# Altium footprint library pcb_peb_1.PcbLib: 34 footprints (part 3 of 3)
Each footprint in its own frame and in the unit in brackets; x right, y up, seen from the top. Pads: shape width x height; smd on the part's side, far side on the other; paste and mask are expansions set on the pad; w line width, h text height; cw(c..) or ccw(c..) is an arc to the next point about the centre after c.
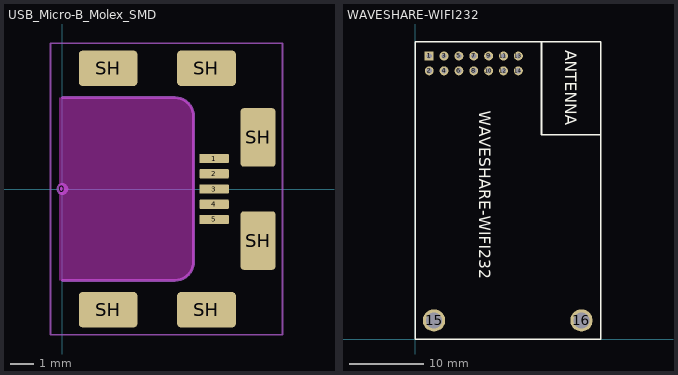
[diagram p2: the footprints below, top view; thin cyan lines are the x and y axes]

## USB_Micro-B_Molex_SMD [mm] "RS: 702-5479"
height 1.2
pads (12):
  round 0.508 on Mech15: 0(0,0)
  rrect20% 1.25x0.4 smd: 1(6.475,1.3) 2(6.475,0.65) 3(6.475,0) 4(6.475,-0.65) 5(6.475,-1.3)
  rrect20% 2.5x1.5 smd: SH(1.95,-5.15) SH(1.95,5.15) SH(6.15,-5.15) SH(6.15,5.15)
  rrect20% 1.5x2.5 smd: SH(8.35,-2.2) SH(8.35,2.2)
Top Solder:
  rectangle: 5.842,-1.27 7.112,1.27
Keep-Out Layer:
  board cut-out: -0.127,3.9 4.8,3.9 4.852,3.9 5.009,3.879 5.203,3.799 5.371,3.671 5.499,3.503 5.579,3.309 5.6,3.152 5.6,3.1 5.6,-3.1 5.6,-3.152 5.579,-3.309 5.499,-3.503 5.371,-3.671 5.203,-3.799 5.009,-3.879 4.852,-3.9 4.8,-3.9 -0.127,-3.9
Mechanical 13:
  lines w0.127: 0,-3.9 4.8,-3.9 ccw(c4.8,-3.1) 5.6,-3.1 5.6,3.1 ccw(c4.8,3.1) 4.8,3.9 0,3.9
Mechanical 15:
  lines w0.076: -0.5,-6.223 -0.5,6.223 9.398,6.223 9.398,-6.223 -0.5,-6.223
3D body: height 1.43, standoff -1.52, extent -0.43,-5.5 8.7,5.5

## WAVESHARE-WIFI232 [mm]
pads (16):
  rect 1.2x1.2 hole 0.7: 1(1.9,38.1)
  round 1.2 hole 0.7: 2(1.905,36.1) 3(3.9,38.1) 4(3.9,36.1) 5(5.9,38.1) 6(5.9,36.1) 7(7.9,38.1) 8(7.9,36.1) 9(9.9,38.1) 10(9.9,36.1) 11(11.9,38.1) 12(11.9,36.1) 13(13.9,38.1) 14(13.9,36.1)
  round 3 hole 2.2: 15(2.55,2.5) 16(22.4,2.5)
Top Overlay:
  lines w0.2: 17,27.5 25,27.5 ; 25,0 0,0 0,40 25,40 ; 25.019,0 25.019,40
  lines w0.254: 17,27.5 17,40
  text "ANTENNA" at 20.193,38.862 h1.52
  text "WAVESHARE-WIFI232" at 8.636,30.734 h1.52